# Altium footprint library 数字电路时钟.PcbLib: 21 footprints (part 1 of 2)
Each footprint in its own frame and in the unit in brackets; x right, y up, seen from the top. Pads: shape width x height; smd on the part's side, far side on the other; paste and mask are expansions set on the pad; w line width, h text height; cw(c..) or ccw(c..) is an arc to the next point about the centre after c.
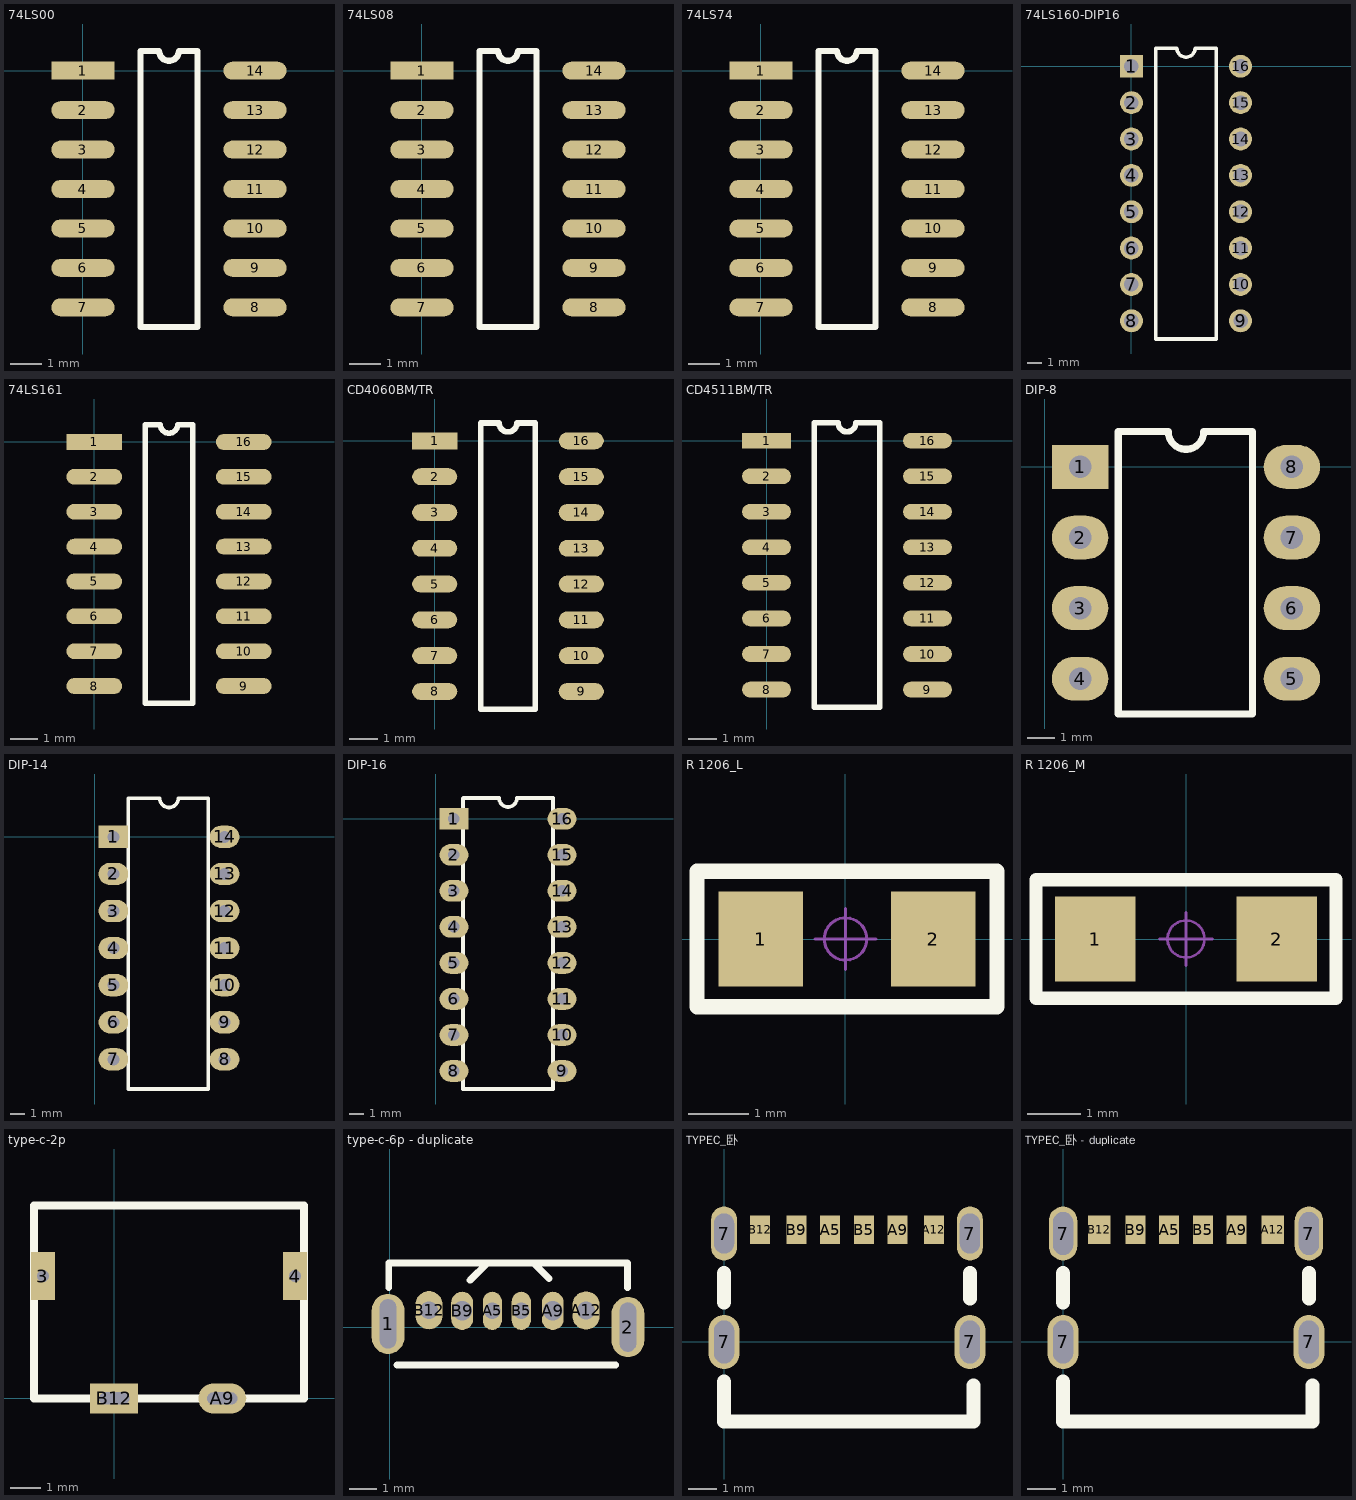
[diagram p0: the footprints below, top view; thin cyan lines are the x and y axes]

## 74LS00 [mil]
pads (14):
  rect 80.24x22.6 smd: 1(0,0)
  oval 80.24x22.6 smd: 2(0,-50) 3(0,-100) 4(0,-150) 5(0,-200) 6(0,-250) 7(0,-300) 8(218.03,-300) 9(218.03,-250) 10(218.03,-200) 11(218.03,-150) 12(218.03,-100) 13(218.03,-50) 14(218.03,0)
Top Overlay:
  lines w7.87: 72.99,-325 145.04,-325 145.04,25 121.52,25 cw(c109.02,25) 96.52,25 72.99,25 72.99,-325

## 74LS08 [mil]
pads (14):
  rect 80.24x22.6 smd: 1(0,0)
  oval 80.24x22.6 smd: 2(0,-50) 3(0,-100) 4(0,-150) 5(0,-200) 6(0,-250) 7(0,-300) 8(218.03,-300) 9(218.03,-250) 10(218.03,-200) 11(218.03,-150) 12(218.03,-100) 13(218.03,-50) 14(218.03,0)
Top Overlay:
  lines w7.87: 72.99,-325 72.99,25 96.52,25 ccw(c109.02,25) 121.52,25 145.04,25 145.04,-325 72.99,-325

## 74LS74 [mil]
pads (14):
  rect 80.24x22.6 smd: 1(0,0)
  oval 80.24x22.6 smd: 2(0,-50) 3(0,-100) 4(0,-150) 5(0,-200) 6(0,-250) 7(0,-300) 8(218.03,-300) 9(218.03,-250) 10(218.03,-200) 11(218.03,-150) 12(218.03,-100) 13(218.03,-50) 14(218.03,0)
Top Overlay:
  lines w7.87: 72.99,-325 72.99,25 96.52,25 ccw(c109.02,25) 121.52,25 145.04,25 145.04,-325 72.99,-325

## 74LS160-DIP16 [mil]
pads (16):
  rect 63x63 hole 40: 1(0,0)
  round 63 hole 40: 2(0,-100) 3(0,-200) 4(0,-300) 5(0,-400) 6(0,-500) 7(0,-600) 8(0,-700) 9(300,-700) 10(300,-600) 11(300,-500) 12(300,-400) 13(300,-300) 14(300,-200) 15(300,-100) 16(300,0)
Top Overlay:
  lines w10: 66.5,-750 233.5,-750 233.5,50 175,50 cw(c150,50) 125,50 66.5,50 66.5,-750

## 74LS161 [mil]
pads (16):
  rect 80.24x22.6 smd: 1(0,0)
  oval 80.24x22.6 smd: 2(0,-50) 3(0,-100) 4(0,-150) 5(0,-200) 6(0,-250) 7(0,-300) 8(0,-350) 9(214.33,-350) 10(214.33,-300) 11(214.33,-250) 12(214.33,-200) 13(214.33,-150) 14(214.33,-100) 15(214.33,-50) 16(214.33,0)
Top Overlay:
  lines w7.87: 72.99,-375 72.99,25 94.67,25 ccw(c107.17,25) 119.67,25 141.34,25 141.34,-375 72.99,-375

## CD4060BM/TR [mm]
pads (16):
  rect 1.6x0.6 smd: 1(0,0)
  oval 1.6x0.6 smd: 2(0,-1.27) 3(0,-2.54) 4(0,-3.81) 5(0,-5.08) 6(0,-6.35) 7(0,-7.62) 8(0,-8.89) 9(5.2,-8.89) 10(5.2,-7.62) 11(5.2,-6.35) 12(5.2,-5.08) 13(5.2,-3.81) 14(5.2,-2.54) 15(5.2,-1.27) 16(5.2,0)
Top Overlay:
  lines w0.2: 1.635,-9.525 3.565,-9.525 3.565,0.635 2.917,0.635 cw(c2.6,0.635) 2.282,0.635 1.635,0.635 1.635,-9.525

## CD4511BM/TR [mm]
pads (16):
  rect 1.745x0.56 smd: 1(0,0)
  oval 1.745x0.56 smd: 2(0,-1.27) 3(0,-2.54) 4(0,-3.81) 5(0,-5.08) 6(0,-6.35) 7(0,-7.62) 8(0,-8.89) 9(5.745,-8.89) 10(5.745,-7.62) 11(5.745,-6.35) 12(5.745,-5.08) 13(5.745,-3.81) 14(5.745,-2.54) 15(5.745,-1.27) 16(5.745,0)
Top Overlay:
  lines w0.2: 1.707,-9.525 4.038,-9.525 4.038,0.635 3.19,0.635 cw(c2.872,0.635) 2.555,0.635 1.707,0.635 1.707,-9.525

## DIP-8 [mil]
pads (8):
  rect 80x62 / inner rect 100x50 / far side rect 80x62 hole 32: 1(50,0)
  oval 80x62 / inner oval 100x50 / far side oval 80x62 hole 32: 2(50,-100) 3(50,-200) 4(50,-300) 5(350,-300) 6(350,-200) 7(350,-100) 8(350,0)
Top Overlay:
  lines w10: 104,-350 294,-350 294,50 225,50 cw(c200,50) 175,50 104,50 104,-350
3D body "P0008A.stp": height 147.5, standoff -150.77, extent 37.01,-334.5 360,30.5

## DIP-14 [mil]
pads (14):
  rect 80x60 hole 32: 1(50,0)
  oval 80x60 hole 32: 2(50,-100) 3(50,-200) 7(50,-600) 8(350,-600) 9(350,-500) 10(350,-400) 11(350,-300) 12(350,-200) 13(350,-100) 14(350,0)
  oval 80x60 / inner oval 100x50 / far side oval 80x62 hole 32: 4(50,-300) 5(50,-400) 6(50,-500)
Top Overlay:
  lines w10: 175,102 173,104 90,104 90,-680 306,-680 306,104 225,104 cw(c200,104) 175,104
3D body "SW3dPS-DIP14-300.STEP": height 200, standoff -98.03, extent 50.16,-675.86 360,91.86

## DIP-16 [mil]
pads (16):
  rect 80x60 / inner rect 100x50 / far side rect 80x60 hole 32: 1(50,0)
  oval 80x60 / inner oval 100x50 / far side oval 80x60 hole 32: 2(50,-100) 3(50,-200) 4(50,-300) 5(50,-400) 6(50,-500) 7(50,-600) 8(50,-700) 9(350,-700) 10(350,-600) 11(350,-500) 12(350,-400) 13(350,-300) 14(350,-200) 15(350,-100) 16(350,0)
Top Overlay:
  lines w10: 174,58 76,58 75,57 75,-750 325,-750 325,58 ; 175,58 ccw(c200,58) 225,58 ; 226,58 324,58
3D body "SW3dPS-DIP16-300.STEP": height 200, standoff -98.03, extent 42.16,-743.7 352,43.7

## R 1206_L [mil] "1/4W贴片电阻"
pads (2):
  rect 55x62 smd: 1(-55.12,0) 2(57.09,0)
Top Overlay:
  lines w10: -96.46,-44 -96.46,44 98.43,44 98.43,-44 -96.46,-44
Mechanical 15:
  circle w1.97: c0,0 r13.78
  lines w1.97: -19.68,0 19.68,0 ; 0,-19.68 0,19.68
3D body "R 1206.STEP": height 21.69, standoff -0.24, extent -62.99,-31.49 63,31.5

## R 1206_M [mil] "1/4W贴片电阻                               淘宝ID:黄晶宝石"
pads (2):
  rect 60x62.99 smd: 1(-67.5,0) 2(67.5,0)
Top Overlay:
  lines w10: -111.5,-44 -111.5,44 111.5,44 111.5,-44 -111.5,-44
Mechanical 15:
  circle w1.97: c0,0 r13.78
  lines w1.97: -19.68,0 19.68,0 ; 0,-19.68 0,19.68
3D body "R 1206.STEP": height 21.69, standoff -0.24, extent -62.99,-31.49 63,31.5

## type-c-2p [mm]
pads (4):
  rect 0.8x1.6 hole 0.4 square: 3(-2.375,4.08) 4(6.025,4.08)
  oval 1.6x1 hole 0.4 slot 1 at 0 deg: A9(3.6,0)
  rect 1.6x1 hole 0.4 slot 1 at 0 deg unplated: B12(0,0)
Top Overlay:
  lines w0.254: 6.275,6.43 -2.675,6.43 -2.675,0 6.325,0 6.325,6.43

## type-c-6p - duplicate [mm]
pads (8):
  oval 1.2x2.2 hole 1.8 slot 0.6 at 0 deg: 1(-0.056,0.118) 2(8.719,0.001)
  oval 0.7x1.4 hole 0.6: A5(3.758,0.594) B5(4.818,0.594)
  oval 0.8x1.4 hole 0.72: A9(5.97,0.594) B9(2.655,0.594)
  oval 1x1.4 hole 0.65: A12(7.187,0.607) B12(1.442,0.62)
Top Overlay:
  lines w0.254: -0.031,1.45 -0.031,2.352 8.705,2.352 8.705,1.438 ; 0.274,-1.395 8.273,-1.395 ; 3.981,2.352 3.58,2.352 ; 5.837,1.773 5.258,2.352 3.58,2.352 ; 3.58,2.352 2.941,1.714 3.58,2.352

## TYPEC_卧 [mm]
pads (10):
  oval 1.1x1.9 hole 1.5 slot 0.7 at 0 deg: 7(0,0) 7(8.636,0)
  oval 0.9x1.9 hole 1.4 slot 0.7 at 0 deg: 7(0,3.81) 7(8.636,3.81)
  rect 0.7x1 smd: A5(3.725,3.937) A9(6.096,3.937) A12(7.366,3.937) B5(4.911,3.937) B9(2.54,3.937) B12(1.27,3.937)
Top Overlay:
  lines w0.5: 0,-1.397 0,-2.794 8.763,-2.794 8.763,-1.524 ; 0,1.397 0,1.778 0,2.413 ; 8.636,1.524 8.636,2.413

## TYPEC_卧 - duplicate [mm]
pads (10):
  oval 1.1x1.9 hole 1.5 slot 0.7 at 0 deg: 7(0,0) 7(8.636,0)
  oval 1x1.9 hole 1.5 slot 0.7 at 0 deg: 7(0,3.81) 7(8.636,3.81)
  rect 0.7x1 smd: A5(3.725,3.937) A9(6.096,3.937) B5(4.911,3.937) B9(2.54,3.937)
  rect 0.8x1 smd: A12(7.366,3.937) B12(1.27,3.937)
Top Overlay:
  lines w0.5: 0,-1.397 0,-2.794 8.763,-2.794 8.763,-1.524 ; 0,1.397 0,1.778 0,2.413 ; 8.636,1.524 8.636,2.413